# Altium footprint library PcbLib1.PcbLib: 25 footprints (part 1 of 2)
Each footprint in its own frame and in the unit in brackets; x right, y up, seen from the top. Pads: shape width x height; smd on the part's side, far side on the other; paste and mask are expansions set on the pad; w line width, h text height; cw(c..) or ccw(c..) is an arc to the next point about the centre after c.
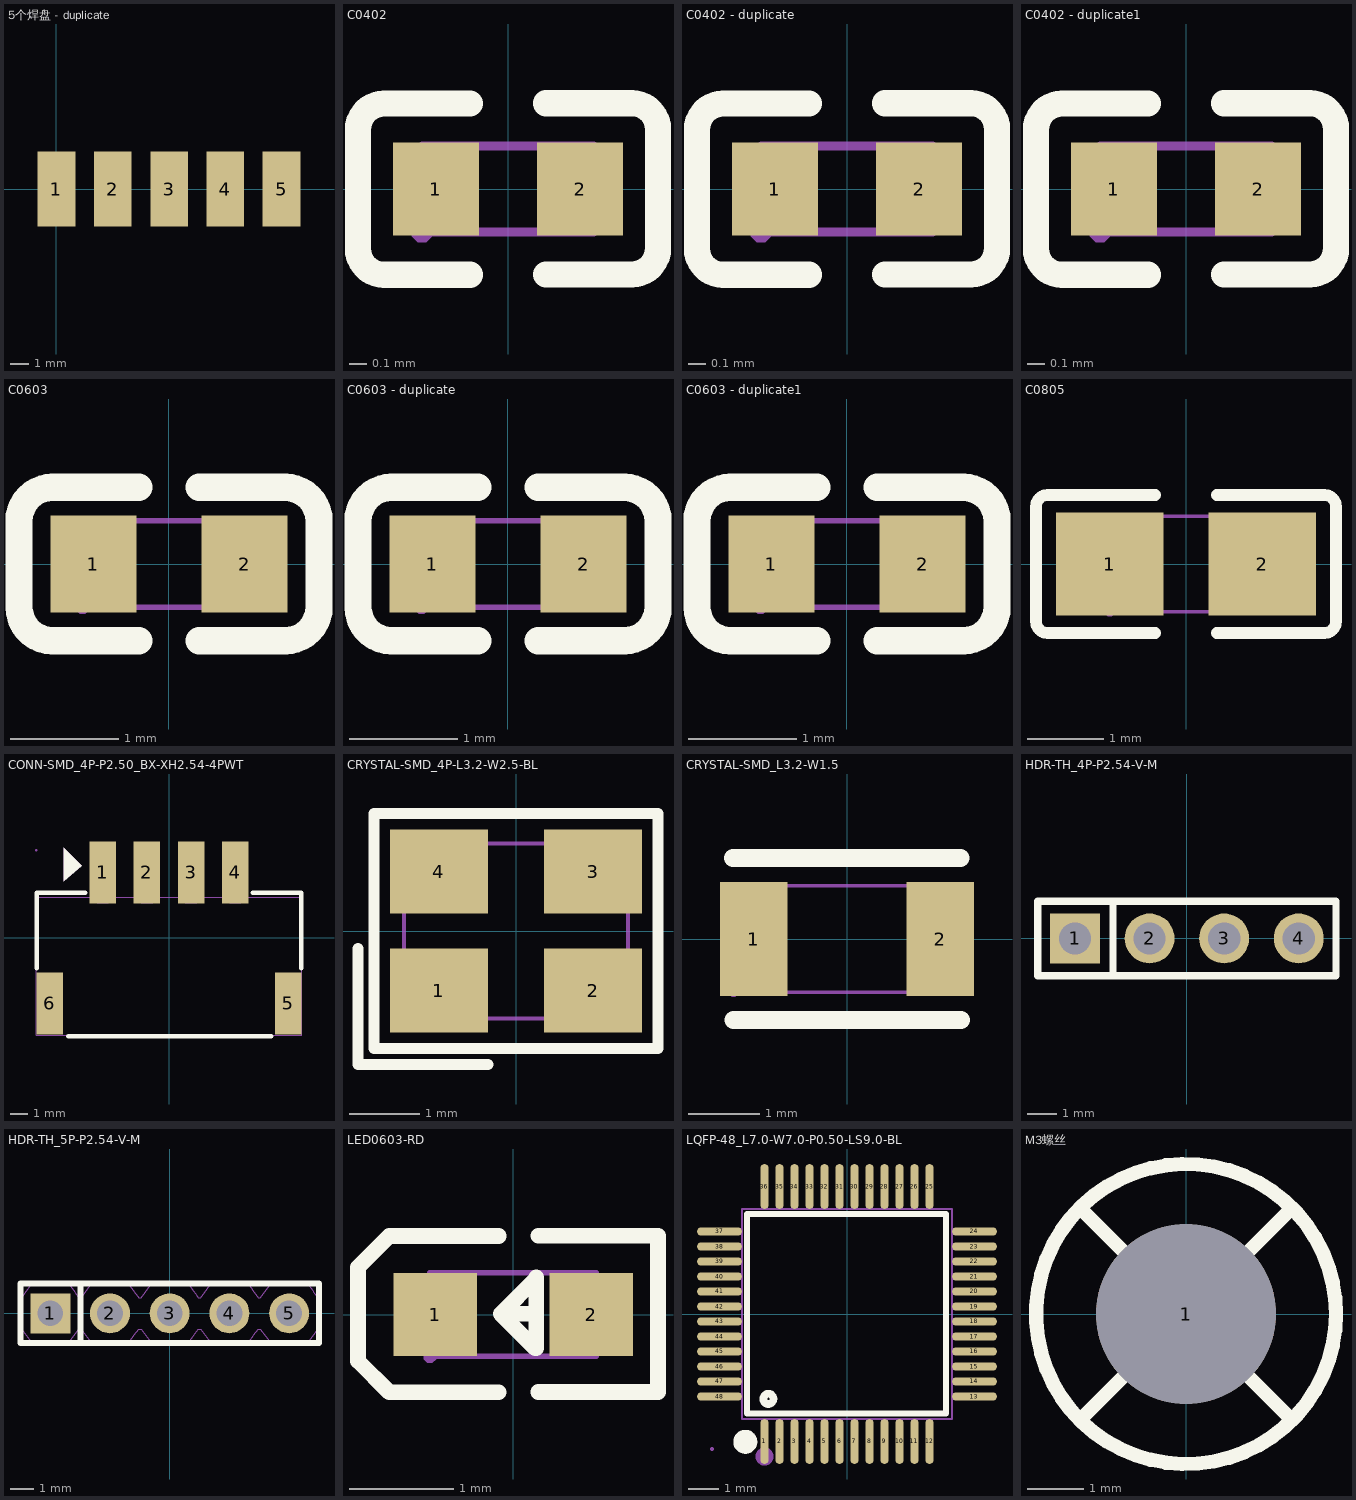
[diagram p0: the footprints below, top view; thin cyan lines are the x and y axes]

## 5个焊盘 - duplicate [mm]
pads (5):
  rect 2x4 smd: 1(0,0) 2(3,0) 3(6.001,0) 4(9,0) 5(12,0)

## C0402 [mm]
pads (2):
  rect 0.5x0.54 smd: 1(-0.42,0) 2(0.42,0)
Top Overlay:
  lines w0.152: -0.221,-0.5 -0.721,-0.5 cw(c-0.721,-0.347) -0.874,-0.347 -0.874,0.345 cw(c-0.721,0.345) -0.721,0.498 -0.221,0.498 ; 0.221,-0.498 0.721,-0.498 ccw(c0.721,-0.345) 0.874,-0.345 0.874,0.347 ccw(c0.721,0.347) 0.721,0.5 0.221,0.5
Mechanical 6:
  lines w0.051: -0.5,-0.25 0.5,-0.25 0.5,0.25 -0.5,0.25 -0.5,-0.25
Mechanical 8:
  region: -0.44,-0.25 -0.44,-0.275 -0.475,-0.31 -0.525,-0.31 -0.56,-0.275 -0.56,-0.25 -0.56,-0.225 -0.525,-0.19 -0.475,-0.19 -0.44,-0.225 -0.44,-0.25
Mechanical 9:
  region: 0.5,-0.25 0.5,0.25 0.25,0.25 0.25,-0.25
  region: -0.5,-0.25 -0.5,0.25 -0.25,0.25 -0.25,-0.25

## C0402 - duplicate [mm]
pads (2):
  rect 0.5x0.54 smd: 1(-0.42,0) 2(0.42,0)
Top Overlay:
  lines w0.152: -0.221,-0.5 -0.721,-0.5 cw(c-0.721,-0.347) -0.874,-0.347 -0.874,0.345 cw(c-0.721,0.345) -0.721,0.498 -0.221,0.498 ; 0.221,-0.498 0.721,-0.498 ccw(c0.721,-0.345) 0.874,-0.345 0.874,0.347 ccw(c0.721,0.347) 0.721,0.5 0.221,0.5
Mechanical 6:
  lines w0.051: -0.5,-0.25 -0.5,0.25 0.5,0.25 0.5,-0.25 -0.5,-0.25
Mechanical 8:
  region: -0.44,-0.25 -0.44,-0.275 -0.475,-0.31 -0.525,-0.31 -0.56,-0.275 -0.56,-0.25 -0.56,-0.225 -0.525,-0.19 -0.475,-0.19 -0.44,-0.225 -0.44,-0.25
Mechanical 9:
  region: -0.5,-0.25 -0.5,0.25 -0.25,0.25 -0.25,-0.25
  region: 0.5,-0.25 0.5,0.25 0.25,0.25 0.25,-0.25

## C0402 - duplicate1 [mm]
pads (2):
  rect 0.5x0.54 smd: 1(-0.42,0) 2(0.42,0)
Top Overlay:
  lines w0.152: -0.221,-0.5 -0.721,-0.5 cw(c-0.721,-0.347) -0.874,-0.347 -0.874,0.345 cw(c-0.721,0.345) -0.721,0.498 -0.221,0.498 ; 0.221,-0.498 0.721,-0.498 ccw(c0.721,-0.345) 0.874,-0.345 0.874,0.347 ccw(c0.721,0.347) 0.721,0.5 0.221,0.5
Mechanical 6:
  lines w0.051: -0.5,-0.25 -0.5,0.25 0.5,0.25 0.5,-0.25 -0.5,-0.25
Mechanical 8:
  region: -0.44,-0.25 -0.44,-0.275 -0.475,-0.31 -0.525,-0.31 -0.56,-0.275 -0.56,-0.25 -0.56,-0.225 -0.525,-0.19 -0.475,-0.19 -0.44,-0.225 -0.44,-0.25
Mechanical 9:
  region: -0.5,-0.25 -0.5,0.25 -0.25,0.25 -0.25,-0.25
  region: 0.5,-0.25 0.5,0.25 0.25,0.25 0.25,-0.25

## C0603 [mm]
pads (2):
  rect 0.8x0.9 smd: 1(-0.7,0) 2(0.7,0)
Top Overlay:
  lines w0.254: -1.08,-0.71 -0.28,-0.71 ; -1.08,0.71 -0.28,0.71 ; -1.08,-0.71 cw(c-1.08,-0.4) -1.39,-0.4 -1.39,0.4 cw(c-1.08,0.4) -1.08,0.71 ; 0.28,-0.71 1.08,-0.71 ccw(c1.08,-0.4) 1.39,-0.4 1.39,0.4 ccw(c1.08,0.4) 1.08,0.71 0.28,0.71
Mechanical 6:
  lines w0.051: -0.8,-0.4 -0.8,0.4 0.8,0.4 0.8,-0.4 -0.8,-0.4
Mechanical 8:
  region: -0.74,-0.4 -0.74,-0.425 -0.775,-0.46 -0.825,-0.46 -0.86,-0.425 -0.86,-0.4 -0.86,-0.375 -0.825,-0.34 -0.775,-0.34 -0.74,-0.375 -0.74,-0.4
Mechanical 9:
  region: -0.8,-0.4 -0.8,0.4 -0.5,0.4 -0.5,-0.4
  region: 0.8,-0.4 0.8,0.4 0.5,0.4 0.5,-0.4

## C0603 - duplicate [mm]
pads (2):
  rect 0.8x0.9 smd: 1(-0.7,0) 2(0.7,0)
Top Overlay:
  lines w0.254: -1.08,-0.71 -0.28,-0.71 ; -1.08,0.71 -0.28,0.71 ; -1.08,-0.71 cw(c-1.08,-0.4) -1.39,-0.4 -1.39,0.4 cw(c-1.08,0.4) -1.08,0.71 ; 0.28,-0.71 1.08,-0.71 ccw(c1.08,-0.4) 1.39,-0.4 1.39,0.4 ccw(c1.08,0.4) 1.08,0.71 0.28,0.71
Mechanical 6:
  lines w0.051: -0.8,-0.4 -0.8,0.4 0.8,0.4 0.8,-0.4 -0.8,-0.4
Mechanical 8:
  region: -0.74,-0.4 -0.74,-0.425 -0.775,-0.46 -0.825,-0.46 -0.86,-0.425 -0.86,-0.4 -0.86,-0.375 -0.825,-0.34 -0.775,-0.34 -0.74,-0.375 -0.74,-0.4
Mechanical 9:
  region: -0.8,-0.4 -0.8,0.4 -0.5,0.4 -0.5,-0.4
  region: 0.8,-0.4 0.8,0.4 0.5,0.4 0.5,-0.4

## C0603 - duplicate1 [mm]
pads (2):
  rect 0.8x0.9 smd: 1(-0.7,0) 2(0.7,0)
Top Overlay:
  lines w0.254: -1.08,-0.71 -0.28,-0.71 ; -1.08,0.71 -0.28,0.71 ; -1.08,-0.71 cw(c-1.08,-0.4) -1.39,-0.4 -1.39,0.4 cw(c-1.08,0.4) -1.08,0.71 ; 0.28,-0.71 1.08,-0.71 ccw(c1.08,-0.4) 1.39,-0.4 1.39,0.4 ccw(c1.08,0.4) 1.08,0.71 0.28,0.71
Mechanical 6:
  lines w0.051: -0.8,-0.4 -0.8,0.4 0.8,0.4 0.8,-0.4 -0.8,-0.4
Mechanical 8:
  region: -0.74,-0.4 -0.74,-0.425 -0.775,-0.46 -0.825,-0.46 -0.86,-0.425 -0.86,-0.4 -0.86,-0.375 -0.825,-0.34 -0.775,-0.34 -0.74,-0.375 -0.74,-0.4
Mechanical 9:
  region: -0.8,-0.4 -0.8,0.4 -0.5,0.4 -0.5,-0.4
  region: 0.8,-0.4 0.8,0.4 0.5,0.4 0.5,-0.4

## C0805 [mm]
pads (2):
  rect 1.41x1.35 smd paste-100 mask+0.051: 1(-1,0) 2(1,0)
Top Overlay:
  lines w0.152: -0.401,-0.904 -1.811,-0.904 cw(c-1.811,-0.751) -1.964,-0.751 -1.964,0.751 cw(c-1.811,0.751) -1.811,0.904 -0.401,0.904 ; 0.401,-0.904 1.811,-0.904 ccw(c1.811,-0.751) 1.964,-0.751 1.964,0.751 ccw(c1.811,0.751) 1.811,0.904 0.401,0.904
Top Paste:
  region: -1.705,-0.64 -1.705,0.64 -1.655,0.69 -0.505,0.69 -0.455,0.64 -0.45,0.23 -0.9,0.23 -0.9,-0.22 -0.46,-0.22 -0.455,-0.64 -0.505,-0.69 -1.655,-0.69
  region: 1.705,0.64 1.705,-0.64 1.655,-0.69 0.505,-0.69 0.455,-0.64 0.45,-0.23 0.9,-0.23 0.9,0.22 0.46,0.22 0.455,0.64 0.505,0.69 1.655,0.69
Mechanical 6:
  lines w0.051: -1,-0.625 -1,0.625 1,0.625 1,-0.625 -1,-0.625
Mechanical 8:
  region: -0.94,-0.625 -0.94,-0.65 -0.975,-0.685 -1.025,-0.685 -1.06,-0.65 -1.06,-0.625 -1.06,-0.6 -1.025,-0.565 -0.975,-0.565 -0.94,-0.6 -0.94,-0.625
Mechanical 9:
  region: -1,-0.625 -1,0.625 -0.5,0.625 -0.5,-0.625
  region: 1,0.625 1,-0.625 0.5,-0.625 0.5,0.625

## CONN-SMD_4P-P2.50_BX-XH2.54-4PWT [mm]
pads (6):
  rect 1.5x3.5 smd paste+0 mask+0.05: 1(-3.75,3.7) 2(-1.25,3.7) 3(1.25,3.7) 4(3.75,3.7) 5(6.73,-3.7) 6(-6.73,-3.7)
Top Overlay:
  region: -4.946,4.081 -5.962,5.097 -5.962,3.192
  lines w0.254: -7.486,-1.719 -7.486,2.557 -4.731,2.557 ; -5.708,-5.571 5.783,-5.571 ; 4.73,2.558 6.389,2.558 7.486,2.558 7.486,-1.719
Mechanical 2:
  region: -4.946,4.081 -5.962,5.097 -5.962,3.192
Mechanical 6:
  lines w0.051: -7.5,-5.502 7.5,-5.502 7.5,2.298 -7.5,2.298 -7.5,-5.502
Mechanical 8:
  region: -7.44,4.95 -7.44,4.925 -7.475,4.89 -7.525,4.89 -7.56,4.925 -7.56,4.95 -7.56,4.975 -7.525,5.01 -7.475,5.01 -7.44,4.975 -7.44,4.95
Mechanical 9:
  region: 6.53,-2.45 6.93,-2.45 6.93,-4.95 6.53,-4.95
  region: -6.93,-2.45 -6.53,-2.45 -6.53,-4.95 -6.93,-4.95
  region: 3.43,4.95 4.07,4.95 4.07,1.95 3.43,1.95
  region: 0.93,4.95 1.57,4.95 1.57,1.95 0.93,1.95
  region: -1.57,4.95 -0.93,4.95 -0.93,1.95 -1.57,1.95
  region: -4.07,4.95 -3.43,4.95 -3.43,1.95 -4.07,1.95

## CRYSTAL-SMD_4P-L3.2-W2.5-BL [mm]
pads (4):
  rect 1.4x1.2 smd: 1(-1.1,-0.85) 2(1.1,-0.85) 3(1.1,0.85) 4(-1.1,0.85)
Top Overlay:
  lines w0.152: -2.257,-0.25 -2.257,-1.907 -0.4,-1.907 ; -2.029,-1.678 -2.029,1.679 2.029,1.679 2.029,-1.678 -2.029,-1.678
Mechanical 2:
  circle w0.254: c-1.27,-0.889 r0.127
Mechanical 6:
  lines w0.051: -1.6,-1.25 -1.6,1.25 1.6,1.25 1.6,-1.25 -1.6,-1.25
Mechanical 8:
  region: -1.54,-1.25 -1.54,-1.275 -1.575,-1.31 -1.625,-1.31 -1.66,-1.275 -1.66,-1.25 -1.66,-1.225 -1.625,-1.19 -1.575,-1.19 -1.54,-1.225 -1.54,-1.25
Mechanical 9:
  region: -1.5,1.15 -0.6,1.15 -0.6,0.35 -1.5,0.35
  region: 0.6,1.15 1.5,1.15 1.5,0.35 0.6,0.35
  region: 0.6,-0.35 1.5,-0.35 1.5,-1.15 0.6,-1.15
  region: -1.5,-0.35 -0.6,-0.35 -0.6,-1.15 -1.5,-1.15

## CRYSTAL-SMD_L3.2-W1.5 [mm]
pads (2):
  rect 0.95x1.6 smd: 1(-1.308,0) 2(1.308,0)
Top Overlay:
  lines w0.254: -1.603,1.14 1.597,1.14 ; -1.597,-1.14 1.603,-1.14
Mechanical 6:
  lines w0.051: -1.597,-0.75 1.603,-0.75 1.603,0.75 -1.597,0.75 -1.597,-0.75
Mechanical 8:
  region: -1.537,-0.75 -1.537,-0.775 -1.573,-0.81 -1.622,-0.81 -1.657,-0.775 -1.657,-0.75 -1.657,-0.725 -1.622,-0.69 -1.573,-0.69 -1.537,-0.725 -1.537,-0.75
Mechanical 9:
  region: -1.598,-0.65 -1.598,0.65 -0.847,0.65 -0.847,-0.65
  region: 0.853,-0.65 0.853,0.65 1.603,0.65 1.603,-0.65

## HDR-TH_4P-P2.54-V-M [mm]
pads (4):
  rect 1.7x1.7 hole 1.1: 1(-3.81,0)
  round 1.7 hole 1.1: 2(-1.27,0) 3(1.27,0) 4(3.81,0)
Top Overlay:
  lines w0.254: -2.516,-1.27 -2.516,1.27 ; -2.516,1.27 -5.08,1.27 -5.08,-1.27 5.08,-1.27 5.08,1.27 -2.516,1.27
Mechanical 6:
  lines w0.051: -5.08,-1.25 5.08,-1.25 5.08,1.25 -5.08,1.25 -5.08,-1.25
Mechanical 8:
  region: -5.02,-1.25 -5.02,-1.275 -5.055,-1.31 -5.105,-1.31 -5.14,-1.275 -5.14,-1.25 -5.14,-1.225 -5.105,-1.19 -5.055,-1.19 -5.02,-1.225 -5.02,-1.25
Mechanical 9:
  region: 3.49,0.32 4.13,0.32 4.13,-0.32 3.49,-0.32
  region: 0.95,0.32 1.59,0.32 1.59,-0.32 0.95,-0.32
  region: -1.59,0.32 -0.95,0.32 -0.95,-0.32 -1.59,-0.32
  region: -4.13,0.32 -3.49,0.32 -3.49,-0.32 -4.13,-0.32

## HDR-TH_5P-P2.54-V-M [mm]
pads (5):
  rect 1.7x1.7 hole 1.1: 1(-5.08,0)
  round 1.7 hole 1.1: 2(-2.54,0) 3(0,0) 4(2.54,0) 5(5.08,0)
Top Overlay:
  lines w0.254: -3.786,-1.27 -3.786,1.27 ; -6.35,-1.27 -6.35,1.27 6.35,1.27 6.35,-1.27 -6.35,-1.27
Mechanical 6:
  lines w0.051: -6.35,-0.67 -6.35,-0.67 -6.3,-0.67 -5.85,-1.27 -4.31,-1.27 -4.077,-0.965 -3.86,-0.67 -3.76,-0.67 -3.31,-1.27 -1.77,-1.27 -1.542,-0.972 -1.503,-0.919 -1.32,-0.67 -1.22,-0.67 -0.77,-1.27 0.77,-1.27 0.992,-0.98 1.02,-0.942 1.22,-0.67 1.32,-0.67 1.77,-1.27 3.31,-1.271 3.51,-1.009 3.545,-0.963 3.581,-0.913 3.759,-0.67 3.86,-0.67 4.31,-1.27 5.85,-1.27 6.075,-0.976 6.3,-0.67 6.35,-0.67 6.35,0.67 6.3,0.67 6.112,0.925 6.079,0.97 5.85,1.27 4.311,1.27 3.86,0.67 3.76,0.67 3.533,0.979 3.458,1.076 3.31,1.27 1.77,1.27 1.32,0.67 1.22,0.67 1.136,0.783 1.108,0.822 1.01,0.955 0.867,1.143 0.77,1.27 -0.77,1.27 -1.22,0.67 -1.32,0.67 -1.417,0.801 -1.436,0.827 -1.459,0.859 -1.546,0.976 -1.631,1.088 -1.77,1.27 -3.31,1.27 -3.76,0.67 -3.86,0.67 -4.017,0.884 -4.048,0.925 -4.149,1.059 -4.31,1.27 -5.85,1.27 -6.028,1.032 -6.299,0.67 -6.35,0.67 -6.35,-0.67 ; -6.35,-0.67 -6.35,-0.67
Mechanical 8:
  region: -6.29,-1.271 -6.29,-1.296 -6.325,-1.331 -6.375,-1.331 -6.41,-1.296 -6.41,-1.271 -6.41,-1.246 -6.375,-1.211 -6.325,-1.211 -6.29,-1.246 -6.29,-1.271
Mechanical 9:
  region: -5.4,0.32 -4.76,0.32 -4.76,-0.32 -5.4,-0.32
  region: -2.86,0.32 -2.22,0.32 -2.22,-0.32 -2.86,-0.32
  region: -0.32,0.32 0.32,0.32 0.32,-0.32 -0.32,-0.32
  region: 2.22,0.32 2.86,0.32 2.86,-0.32 2.22,-0.32
  region: 4.76,0.32 5.4,0.32 5.4,-0.32 4.76,-0.32

## LED0603-RD [mm]
pads (2):
  rect 0.8x0.8 smd: 1(-0.749,0) 2(0.749,0)
Top Overlay:
  lines w0.15: -0.14,-0.746 -1.19,-0.746 -1.49,-0.446 -1.49,-0.346 -1.49,0.354 -1.49,0.454 -1.19,0.754 -0.14,0.754 ; 0.22,0.007 -0.12,0.007 ; 0.24,-0.744 1.39,-0.744 ; 0.24,0.757 1.39,0.757 1.39,-0.723 ; -0.12,0.007 0.22,0.347 0.22,0.357 0.22,-0.324 0.21,-0.324 -0.12,0.007
Mechanical 2:
  region: 0.529,0.068 1.069,0.068 1.069,-0.062 0.529,-0.062
  region: 0.735,-0.267 0.735,0.273 0.865,0.273 0.865,-0.267
  region: -1.07,0.062 -0.53,0.062 -0.53,-0.068 -1.07,-0.068
Mechanical 6:
  lines w0.051: -0.8,-0.4 0.8,-0.4 0.8,0.4 -0.8,0.4 -0.8,-0.4
Mechanical 8:
  region: -0.739,-0.403 -0.739,-0.428 -0.775,-0.463 -0.824,-0.463 -0.859,-0.428 -0.859,-0.403 -0.859,-0.379 -0.824,-0.344 -0.775,-0.344 -0.739,-0.379 -0.739,-0.403
Mechanical 9:
  region: 0.5,-0.396 0.5,0.404 0.8,0.404 0.8,-0.396
  region: -0.8,-0.403 -0.8,0.397 -0.5,0.397 -0.5,-0.403

## LQFP-48_L7.0-W7.0-P0.50-LS9.0-BL [mm]
pads (48):
  oval 0.27x1.5 smd paste+0 mask+0.05: 1(-2.75,-4.25) 2(-2.25,-4.25) 3(-1.75,-4.25) 4(-1.25,-4.25) 5(-0.75,-4.25) 6(-0.25,-4.25) 7(0.25,-4.25) 8(0.75,-4.25) 9(1.25,-4.25) 10(1.75,-4.25) 11(2.25,-4.25) 12(2.75,-4.25) 25(2.75,4.25) 26(2.25,4.25) 27(1.75,4.25) 28(1.25,4.25) 29(0.75,4.25) 30(0.25,4.25) 31(-0.25,4.25) 32(-0.75,4.25) 33(-1.25,4.25) 34(-1.75,4.25) 35(-2.25,4.25) 36(-2.75,4.25)
  oval 1.5x0.27 smd paste+0 mask+0.05: 13(4.25,-2.75) 14(4.25,-2.25) 15(4.25,-1.75) 16(4.25,-1.25) 17(4.25,-0.75) 18(4.25,-0.25) 19(4.25,0.25) 20(4.25,0.75) 21(4.25,1.25) 22(4.25,1.75) 23(4.25,2.25) 24(4.25,2.75) 37(-4.25,2.75) 38(-4.25,2.25) 39(-4.25,1.75) 40(-4.25,1.25) 41(-4.25,0.75) 42(-4.25,0.25) 43(-4.25,-0.25) 44(-4.25,-0.75) 45(-4.25,-1.25) 46(-4.25,-1.75) 47(-4.25,-2.25) 48(-4.25,-2.75)
Top Overlay:
  circle w0.254: c-2.62,-2.83 r0.17
  lines w0.2: -2.896,3.34 3.302,3.34 3.302,-3.315 -3.327,-3.315 -3.327,3.34 -2.565,3.34
  lines w0.4: -3.39,-4.06 ccw(c-3.389,-4.26) -3.387,-4.06
Mechanical 2:
  circle w0.3: c-2.75,-4.75 r0.15
Mechanical 6:
  lines w0.051: -3.5,-3.5 -3.5,3.5 3.5,3.5 3.5,-3.5 -3.5,-3.5
Mechanical 7:
  drawing of 48 lines, arcs and shapes, not listed
Mechanical 8:
  region: -4.44,-4.5 -4.44,-4.525 -4.475,-4.56 -4.525,-4.56 -4.56,-4.525 -4.56,-4.5 -4.56,-4.475 -4.525,-4.44 -4.475,-4.44 -4.44,-4.475 -4.44,-4.5
Mechanical 9:
  drawing of 48 lines, arcs and shapes, not listed

## M3螺丝 [mil]
pads (1):
  round 126 hole 126 paste-99999 mask+4: 1(0,0)
Top Overlay:
  circle w10: c0,0 r105
  lines w10: -72.5,-72.5 72.5,72.5 ; -72.5,72.5 72.5,-72.5